# Altium integrated library SparkFun-IC-Special-Function.IntLib: 47 symbols
Pins are listed as number, name and electrical type; pins without a type are passive.

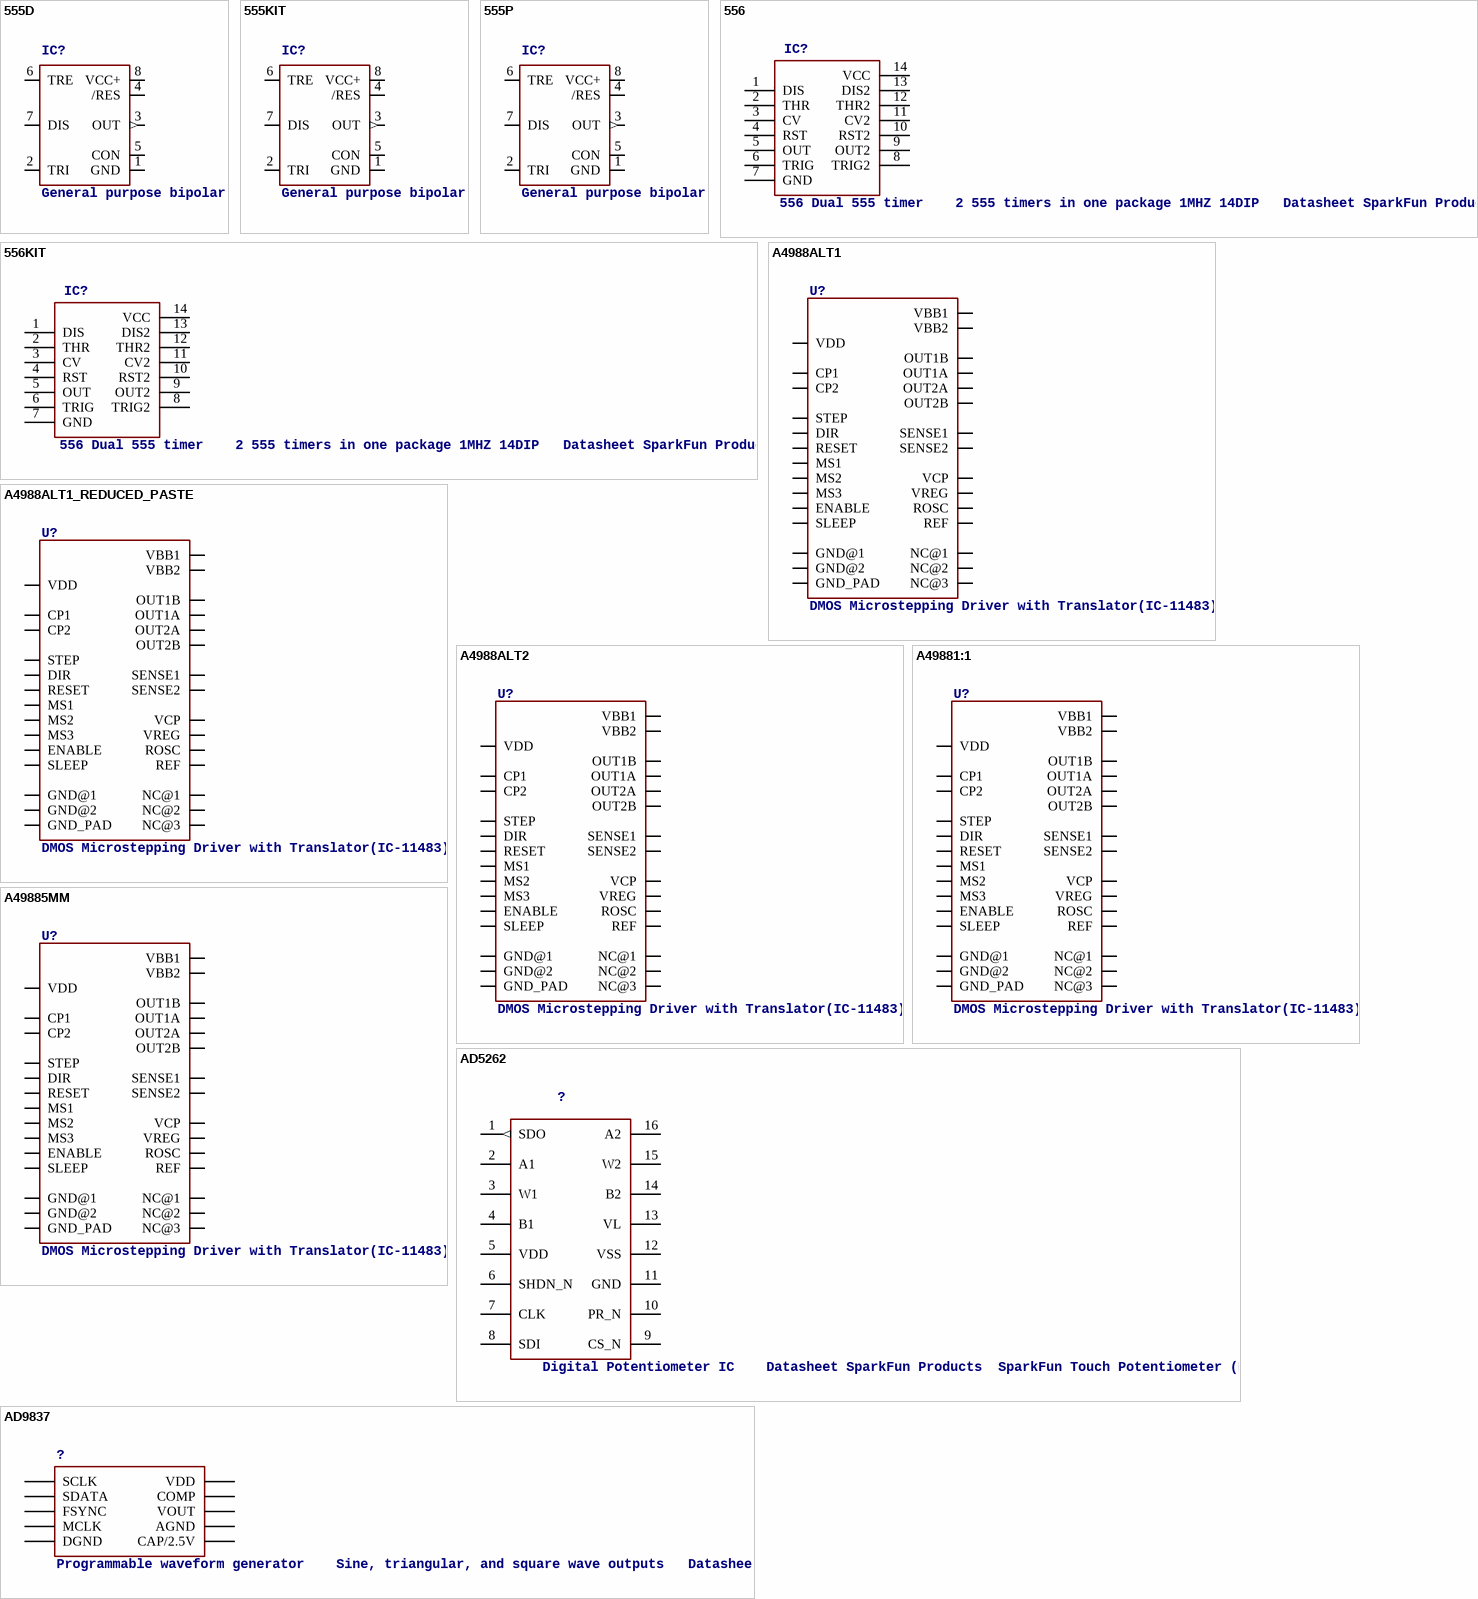
[diagram p0: symbols 555D to AD9837]

## 555D
designator IC?, comment General purpose bipolar Timer    Datasheet SparkFun Products  SparkFun SparkPunk Sequencer Kit (KIT-12707)  Storefront Component: 555 Timer (COM-09273)    Two parts valid for production:  VFP: IC-11930 (M7555 PTH) VFP: IC-09173 (555 PTH) - Preferred
PROD_ID: NA-XXXXX
footprint SO08
pins: 1 GND (power), 2 TRI, 3 OUT (out), 4 /RES, 5 CON, 6 TRE, 7 DIS, 8 VCC+ (power)

## 555KIT
designator IC?, comment General purpose bipolar Timer    Datasheet SparkFun Products  SparkFun SparkPunk Sequencer Kit (KIT-12707)  Storefront Component: 555 Timer (COM-09273)    Two parts valid for production:  VFP: IC-11930 (M7555 PTH) VFP: IC-09173 (555 PTH) - Preferred
PROD_ID: IC-09173; PROD_ID_ALT: IC-11930
footprint DIP08-KIT
pins: 1 GND (power), 2 TRI, 3 OUT (out), 4 /RES, 5 CON, 6 TRE, 7 DIS, 8 VCC+ (power)

## 555P
designator IC?, comment General purpose bipolar Timer    Datasheet SparkFun Products  SparkFun SparkPunk Sequencer Kit (KIT-12707)  Storefront Component: 555 Timer (COM-09273)    Two parts valid for production:  VFP: IC-11930 (M7555 PTH) VFP: IC-09173 (555 PTH) - Preferred
PROD_ID: IC-09173; PROD_ID_ALT: IC-09173
footprint DIP08
pins: 1 GND (power), 2 TRI, 3 OUT (out), 4 /RES, 5 CON, 6 TRE, 7 DIS, 8 VCC+ (power)

## 556
designator IC?, comment 556 Dual 555 timer    2 555 timers in one package 1MHZ 14DIP   Datasheet SparkFun Products  SparkFun SparkPunk Sound Kit (KIT-11177)
PROD_ID: IC-11898
footprint DIP14
pins: 1 DIS, 2 THR, 3 CV, 4 RST, 5 OUT, 6 TRIG, 7 GND, 8 TRIG2, 9 OUT2, 10 RST2, 11 CV2, 12 THR2, 13 DIS2, 14 VCC

## 556KIT
designator IC?, comment 556 Dual 555 timer    2 555 timers in one package 1MHZ 14DIP   Datasheet SparkFun Products  SparkFun SparkPunk Sound Kit (KIT-11177)
PROD_ID: IC-11898
footprint DIP14-KIT
pins: 1 DIS, 2 THR, 3 CV, 4 RST, 5 OUT, 6 TRIG, 7 GND, 8 TRIG2, 9 OUT2, 10 RST2, 11 CV2, 12 THR2, 13 DIS2, 14 VCC

## A4988ALT1
designator U?, comment DMOS Microstepping Driver with Translator(IC-11483)
PROD_ID: IC-11483
footprint QFN-28-5MM_ALT1
pins: P$1 OUT2B, P$2 ENABLE, P$3 GND@1 (power), P$4 CP1, P$5 CP2, P$6 VCP, P$7 NC@1, P$8 VREG, P$9 MS1, P$10 MS2, P$11 MS3, P$12 RESET, P$13 ROSC, P$14 SLEEP, P$15 VDD (power), P$16 STEP, P$17 REF, P$18 GND@2 (power), P$19 DIR, P$20 NC@2, P$21 OUT1B, P$22 VBB1, P$23 SENSE1, P$24 OUT1A, P$25 NC@3, P$26 OUT2A, P$27 SENSE2, P$28 VBB2, P$29 GND_PAD (power)

## A4988ALT1_REDUCED_PASTE
designator U?, comment DMOS Microstepping Driver with Translator(IC-11483)
PROD_ID: IC-11483
footprint QFN-28-5MM_ALT1_REDUCED_PASTE
pins: P$1 OUT2B, P$2 ENABLE, P$3 GND@1 (power), P$4 CP1, P$5 CP2, P$6 VCP, P$7 NC@1, P$8 VREG, P$9 MS1, P$10 MS2, P$11 MS3, P$12 RESET, P$13 ROSC, P$14 SLEEP, P$15 VDD (power), P$16 STEP, P$17 REF, P$18 GND@2 (power), P$19 DIR, P$20 NC@2, P$21 OUT1B, P$22 VBB1, P$23 SENSE1, P$24 OUT1A, P$25 NC@3, P$26 OUT2A, P$27 SENSE2, P$28 VBB2, P$29 GND_PAD (power)

## A4988ALT2
designator U?, comment DMOS Microstepping Driver with Translator(IC-11483)
footprint QFN-28-5MM_ALT2
pins: P$1 OUT2B, P$2 ENABLE, P$3 GND@1 (power), P$4 CP1, P$5 CP2, P$6 VCP, P$7 NC@1, P$8 VREG, P$9 MS1, P$10 MS2, P$11 MS3, P$12 RESET, P$13 ROSC, P$14 SLEEP, P$15 VDD (power), P$16 STEP, P$17 REF, P$18 GND@2 (power), P$19 DIR, P$20 NC@2, P$21 OUT1B, P$22 VBB1, P$23 SENSE1, P$24 OUT1A, P$25 NC@3, P$26 OUT2A, P$27 SENSE2, P$28 VBB2, P$29 GND_PAD (power)

## A49881:1
designator U?, comment DMOS Microstepping Driver with Translator(IC-11483)
footprint QFN-28-5MM-1:1
pins: P$1 OUT2B, P$2 ENABLE, P$3 GND@1 (power), P$4 CP1, P$5 CP2, P$6 VCP, P$7 NC@1, P$8 VREG, P$9 MS1, P$10 MS2, P$11 MS3, P$12 RESET, P$13 ROSC, P$14 SLEEP, P$15 VDD (power), P$16 STEP, P$17 REF, P$18 GND@2 (power), P$19 DIR, P$20 NC@2, P$21 OUT1B, P$22 VBB1, P$23 SENSE1, P$24 OUT1A, P$25 NC@3, P$26 OUT2A, P$27 SENSE2, P$28 VBB2, P$29 GND_PAD (power)

## A49885MM
designator U?, comment DMOS Microstepping Driver with Translator(IC-11483)
footprint QFN-28-5MM
pins: P$1 OUT2B, P$2 ENABLE, P$3 GND@1 (power), P$4 CP1, P$5 CP2, P$6 VCP, P$7 NC@1, P$8 VREG, P$9 MS1, P$10 MS2, P$11 MS3, P$12 RESET, P$13 ROSC, P$14 SLEEP, P$15 VDD (power), P$16 STEP, P$17 REF, P$18 GND@2 (power), P$19 DIR, P$20 NC@2, P$21 OUT1B, P$22 VBB1, P$23 SENSE1, P$24 OUT1A, P$25 NC@3, P$26 OUT2A, P$27 SENSE2, P$28 VBB2, P$29 GND_PAD (power)

## AD5262
designator ?, comment Digital Potentiometer IC    Datasheet SparkFun Products  SparkFun Touch Potentiometer (PRT-13144)
PROD_ID: IC-12358
footprint SSOP16
pins: 1 SDO (out), 2 A1, 3 W1, 4 B1, 5 VDD (power), 6 SHDN_N, 7 CLK, 8 SDI, 9 CS_N, 10 PR_N, 11 GND (power), 12 VSS (power), 13 VL (power), 14 B2, 15 W2, 16 A2

## AD9837
designator ?, comment Programmable waveform generator    Sine, triangular, and square wave outputs   Datasheet SparkFun Products  SparkFun MiniGen - Pro Mini Signal Generator Shield (BOB-11420)
PROD_ID: IC-11223
footprint AD9837
pins: P$0 P$4 DGND, P$1 COMP, P$2 VDD, P$3 CAP/2.5V, P$5 MCLK, P$6 SDATA, P$7 SCLK, P$8 FSYNC, P$9 AGND, P$10 VOUT

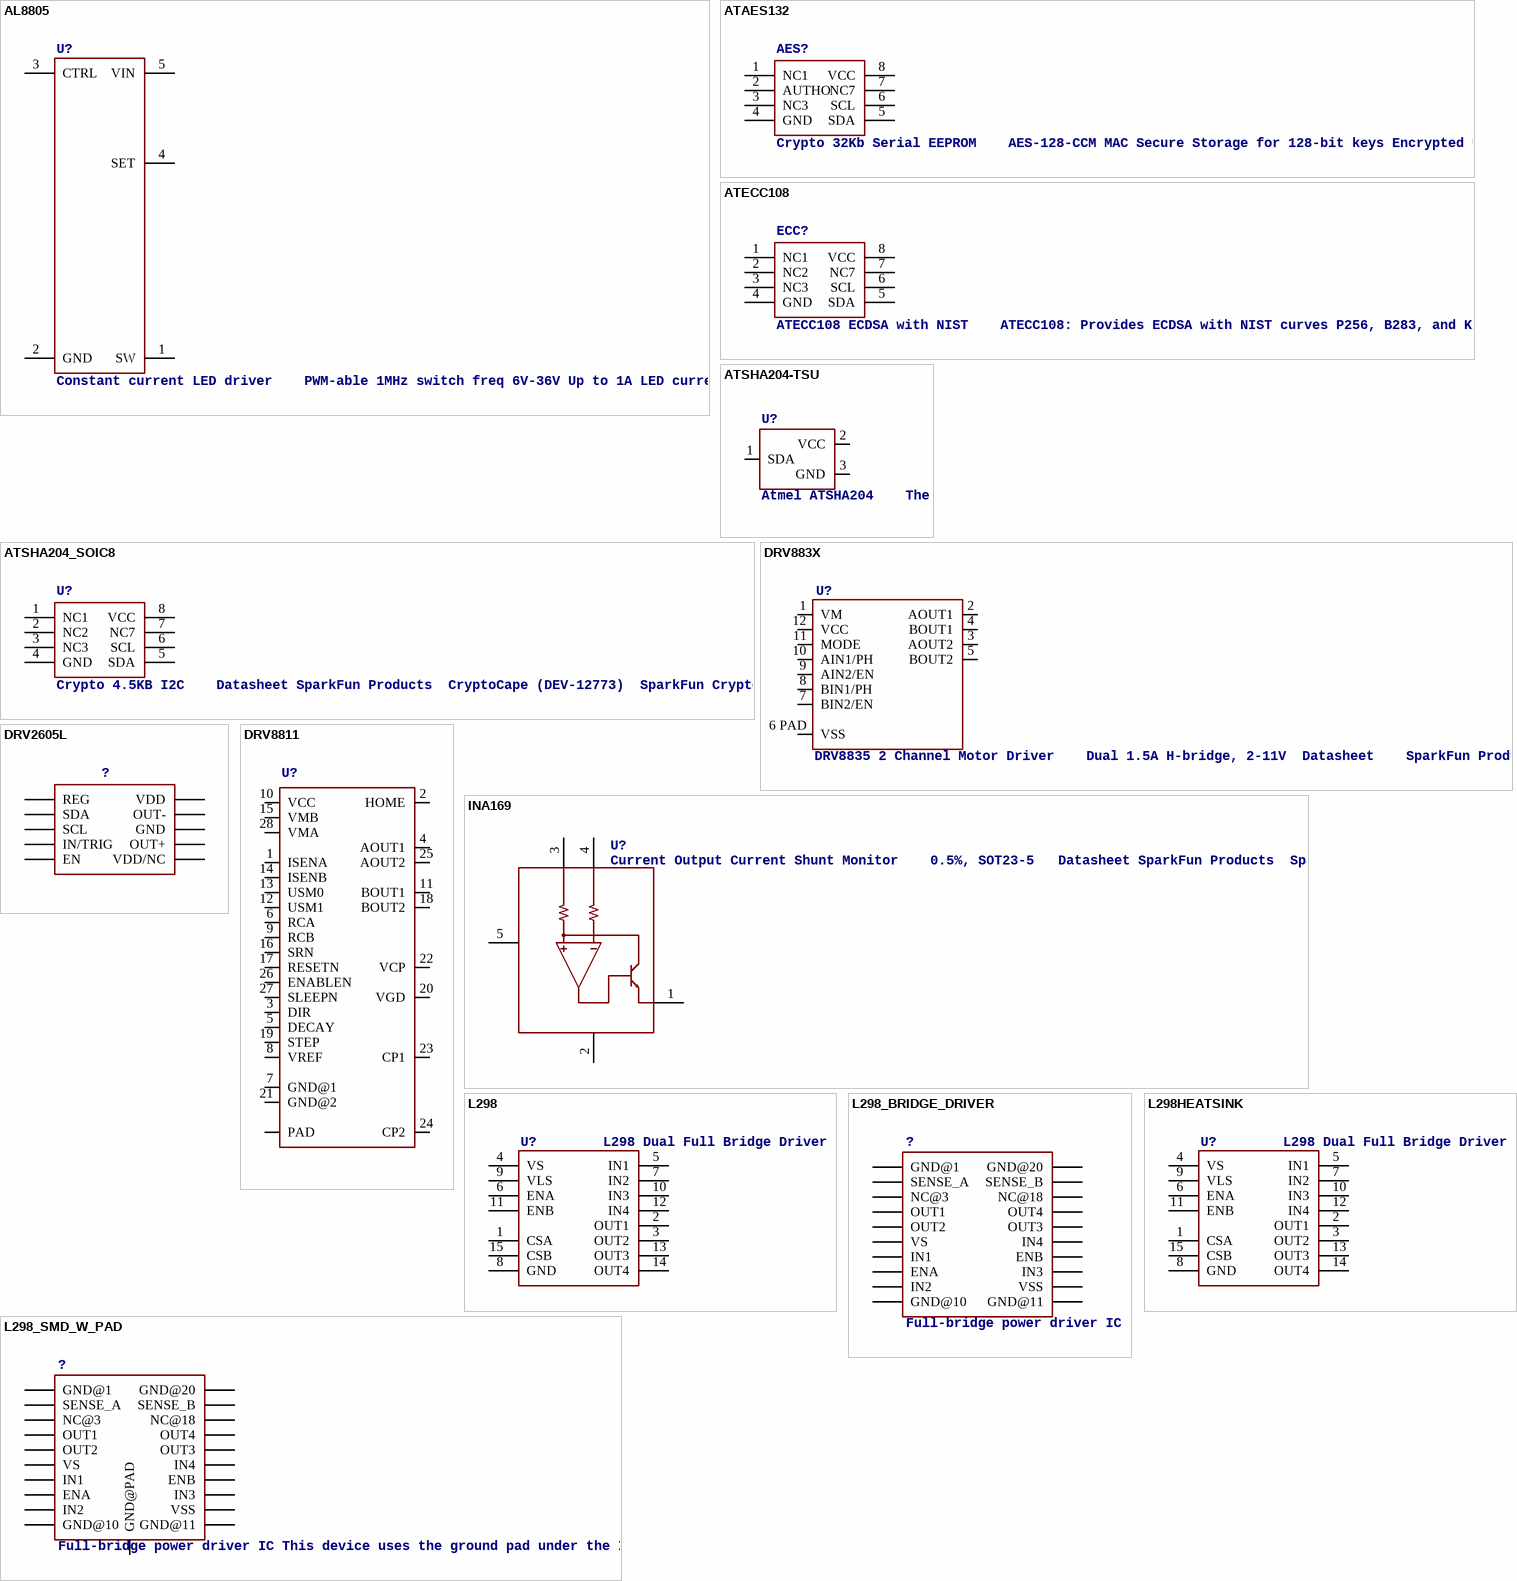
[diagram p1: symbols AL8805 to L298HEATSINK]

## AL8805
designator U?, comment Constant current LED driver    PWM-able 1MHz switch freq 6V-36V Up to 1A LED current
PROD_ID: IC-11626
footprint SOT23-5
pins: 1 SW, 2 GND, 3 CTRL, 4 SET, 5 VIN

## ATAES132
designator AES?, comment Crypto 32Kb Serial EEPROM    AES-128-CCM MAC Secure Storage for 128-bit keys Encrypted User Memory Readn and Write HWRNG 2.5V to 5.5V    Datasheet SparkFun Products  CryptoCape (DEV-12773)  SparkFun CryptoShield (DEV-13183)
PROD_ID: IC-11983
footprint SO08
pins: 1 NC1, 2 AUTHO, 3 NC3, 4 GND (power), 5 SDA, 6 SCL, 7 NC7, 8 VCC (power)

## ATECC108
designator ECC?, comment ATECC108 ECDSA with NIST    ATECC108: Provides ECDSA with NIST curves P256, B283, and K283.  Also, a RNG, 8.5Kb EEPROM.  2.0V - 5.5V.   Datasheet SparkFun Products  CryptoCape (DEV-12773)  SparkFun CryptoShield (DEV-13183)
PROD_ID: IC-11982
footprint SO08
pins: 1 NC1, 2 NC2, 3 NC3, 4 GND (power), 5 SDA, 6 SCL, 7 NC7, 8 VCC (power)

## ATSHA204-TSU
designator U?, comment Atmel ATSHA204    The Atmel ATSHA204 is an optimized authentication chip that includes a 4.5Kb EEPROM. This array can be used for storage of keys, miscellaneous read/write, read-only, password or secret data, and consumption tracking. Access to the various sections of memory can be restricted in a variety of ways and then the configuration locked to prevent changes.   Datasheet SparkFun Products  SparkFun Electric Imp Shield    SparkFun Electric Imp Breakout
PROD_ID: IC-11208
footprint SOT23-3
pins: 1 SDA, 2 VCC, 3 GND

## ATSHA204_SOIC8
designator U?, comment Crypto 4.5KB I2C    Datasheet SparkFun Products  CryptoCape (DEV-12773)  SparkFun CryptoShield (DEV-13183)
PROD_ID: IC-11981
footprint SO08
pins: 1 NC1, 2 NC2, 3 NC3, 4 GND (power), 5 SDA, 6 SCL, 7 NC7, 8 VCC (power)

## DRV883X
designator U?, comment DRV8835 2 Channel Motor Driver    Dual 1.5A H-bridge, 2-11V  Datasheet    SparkFun Products: SparkFun Serial Controlled Motor Driver
PROD_ID: IC-13342
footprint WSON-12
pins: 1 VM, 2 AOUT1, 3 AOUT2, 4 BOUT1, 5 BOUT2, 6 PAD VSS, 7 BIN2/EN, 8 BIN1/PH, 9 AIN2/EN, 10 AIN1/PH, 11 MODE, 12 VCC

## DRV2605L
designator ?
PROD_ID: IC-13504
footprint VSSOP-10
pins: P$1 REG, P$2 SCL, P$3 SDA, P$4 IN/TRIG, P$5 EN, P$6 VDD/NC, P$7 OUT+, P$8 GND, P$9 OUT-, P$10 VDD

## DRV8811
designator U?
PROD_ID: IC-12375
footprint HTSSOP28
pins: 1 ISENA, 2 HOME, 3 DIR, 4 AOUT1, 5 DECAY, 6 RCA, 7 GND@1, 8 VREF, 9 RCB, 10 VCC, 11 BOUT1, 12 USM1, 13 USM0, 14 ISENB, 15 VMB, 16 SRN, 17 RESETN, 18 BOUT2, 19 STEP, 20 VGD, 21 GND@2, 22 VCP, 23 CP1, 24 CP2, 25 AOUT2, 26 ENABLEN, 27 SLEEPN, 28 VMA, GND@10 GND@11 GND@12 GND@13 GND@14 GND@15 GND@16 GND@17 GND@18 GND@19 GND@20 GND@21 GND@22 GND@23 GND@24 GND@25 GND@26 GND@27 GND@28 GND@29 GND@30 GND@PAD PAD

## INA169
designator U?, comment Current Output Current Shunt Monitor    0.5%, SOT23-5   Datasheet SparkFun Products  SparkFun Current Sensor Breakout - INA169 (SEN-12040)
PROD_ID: IC-11776
footprint SOT23-5
pins: 1 OUT, 2 GND, 3 VIN+, 4 VIN-, 5 V+

## L298
designator U?, comment L298 Dual Full Bridge Driver
footprint MULTIWATT15
pins: 1 CSA, 2 OUT1, 3 OUT2, 4 VS, 5 IN1, 6 ENA, 7 IN2, 8 GND, 9 VLS, 10 IN3, 11 ENB, 12 IN4, 13 OUT3, 14 OUT4, 15 CSB

## L298_BRIDGE_DRIVER
designator ?, comment Full-bridge power driver IC
PROD_ID: IC-09133
footprint POWERSO20
pins: 1 GND@1, 2 SENSE_A, 3 NC@3, 4 OUT1, 5 OUT2, 6 VS, 7 IN1, 8 ENA, 9 IN2, 10 GND@10, 11 GND@11, 12 VSS, 13 IN3, 14 ENB, 15 IN4, 16 OUT3, 17 OUT4, 18 NC@18, 19 SENSE_B, 20 GND@20

## L298_SMD_W_PAD
designator ?, comment Full-bridge power driver IC This device uses the ground pad under the IC
PROD_ID: IC-09133
footprint POWERSO20_L298_PAD
pins: 1 GND@1, 2 SENSE_A, 3 NC@3, 4 OUT1, 5 OUT2, 6 VS, 7 IN1, 8 ENA, 9 IN2, 10 GND@10, 11 GND@11, 12 VSS, 13 IN3, 14 ENB, 15 IN4, 16 OUT3, 17 OUT4, 18 NC@18, 19 SENSE_B, 20 GND@20, PAD GND@PAD

## L298HEATSINK
designator U?, comment L298 Dual Full Bridge Driver
footprint MULTIWATT15_6400BGHEATSINK
pins: 1 CSA, 2 OUT1, 3 OUT2, 4 VS, 5 IN1, 6 ENA, 7 IN2, 8 GND, 9 VLS, 10 IN3, 11 ENB, 12 IN4, 13 OUT3, 14 OUT4, 15 CSB

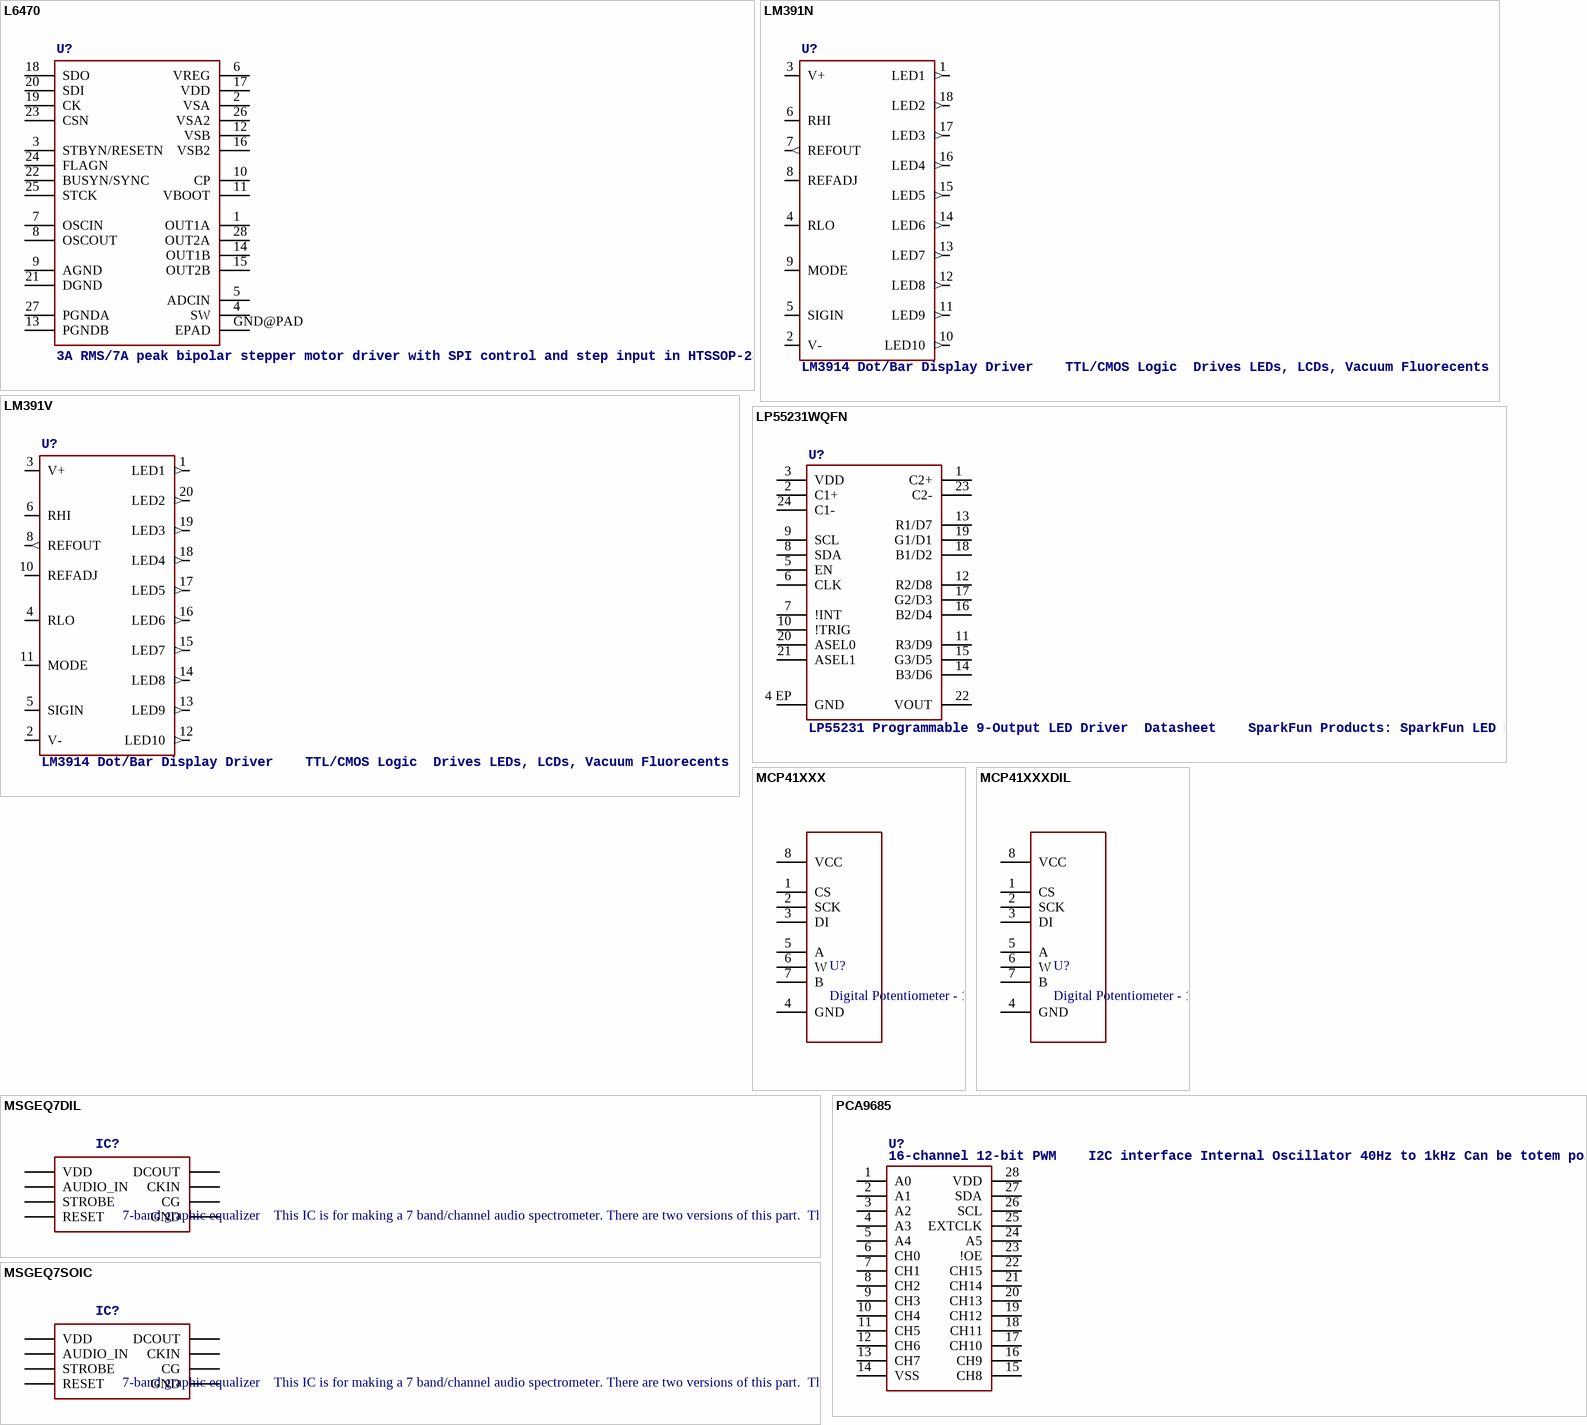
[diagram p2: symbols L6470 to PCA9685]

## L6470
designator U?, comment 3A RMS/7A peak bipolar stepper motor driver with SPI control and step input in HTSSOP-28 package. IC-10648
PROD_ID: IC-10648
footprint HTSSOP28
pins: 1 OUT1A, 2 VSA, 3 STBYN/RESETN, 4 SW, 5 ADCIN, 6 VREG, 7 OSCIN, 8 OSCOUT, 9 AGND, 10 CP, 11 VBOOT, 12 VSB, 13 PGNDB, 14 OUT1B, 15 OUT2B, 16 VSB2, 17 VDD, 18 SDO, 19 CK, 20 SDI, 21 DGND, 22 BUSYN/SYNC, 23 CSN, 24 FLAGN, 25 STCK, 26 VSA2, 27 PGNDA, 28 OUT2A, GND@PAD EPAD

## LM391N
designator U?, comment LM3914 Dot/Bar Display Driver    TTL/CMOS Logic  Drives LEDs, LCDs, Vacuum Fluorecents  Source:  Data sheet LM3915  Data sheet LM3914    SparkFun Products: MyoWare LED Shield  Dot/Bar Display Driver - LM3914
SF_ID: COM-12694
footprint DIL18
pins: 1 LED1 (out), 2 V- (power), 3 V+ (power), 4 RLO, 5 SIGIN, 6 RHI, 7 REFOUT (out), 8 REFADJ, 9 MODE, 10 LED10 (out), 11 LED9 (out), 12 LED8 (out), 13 LED7 (out), 14 LED6 (out), 15 LED5 (out), 16 LED4 (out), 17 LED3 (out), 18 LED2 (out)

## LM391V
designator U?, comment LM3914 Dot/Bar Display Driver    TTL/CMOS Logic  Drives LEDs, LCDs, Vacuum Fluorecents  Source:  Data sheet LM3915  Data sheet LM3914    SparkFun Products: MyoWare LED Shield  Dot/Bar Display Driver - LM3914
PROD_ID: IC-13110
footprint PLCC20S
pins: 1 LED1 (out), 2 V- (power), 3 V+ (power), 4 RLO, 5 SIGIN, 6 RHI, 8 REFOUT (out), 10 REFADJ, 11 MODE, 12 LED10 (out), 13 LED9 (out), 14 LED8 (out), 15 LED7 (out), 16 LED6 (out), 17 LED5 (out), 18 LED4 (out), 19 LED3 (out), 20 LED2 (out)

## LP55231WQFN
designator U?, comment LP55231 Programmable 9-Output LED Driver  Datasheet    SparkFun Products: SparkFun LED Driver Breakout - LP55231
PROD_ID: IC-13302
footprint WQFN-24
pins: 1 C2+, 2 C1+, 3 VDD, 4 EP GND, 5 EN, 6 CLK, 7 !INT, 8 SDA, 9 SCL, 10 !TRIG, 11 R3/D9, 12 R2/D8, 13 R1/D7, 14 B3/D6, 15 G3/D5, 16 B2/D4, 17 G2/D3, 18 B1/D2, 19 G1/D1, 20 ASEL0, 21 ASEL1, 22 VOUT, 23 C2-, 24 C1-

## MCP41XXX
designator U?, comment Digital Potentiometer - 10K    SPI controlled single digital potentiometer by Microchip   Datasheet SparkFun Products  Storefront component: Digital Potentiometer - 10K (COM-10613)
PROD_ID: NA-XXXXX
footprint SO08
pins: 1 CS, 2 SCK, 3 DI, 4 GND, 5 A, 6 W, 7 B, 8 VCC

## MCP41XXXDIL
designator U?, comment Digital Potentiometer - 10K    SPI controlled single digital potentiometer by Microchip   Datasheet SparkFun Products  Storefront component: Digital Potentiometer - 10K (COM-10613)
PROD_ID: RES-13155
footprint DIP08
pins: 1 CS, 2 SCK, 3 DI, 4 GND, 5 A, 6 W, 7 B, 8 VCC

## MSGEQ7DIL
designator IC?, comment 7-band graphic equalizer    This IC is for making a 7 band/channel audio spectrometer. There are two versions of this part.  The DIP available on the storefront, and the SO used in product.    Datasheet SparkFun Products  Storefront component: Graphic Equalizer Display Filter - MSGEQ7 (COM-10468)  SparkFun Spectrum Shield (DEV-13116)
PROD_ID: IC-12196
footprint DIP08
pins: 1 VDD, 2 GND, 3 DCOUT, 4 STROBE, 5 AUDIO_IN, 6 CG, 7 RESET, 8 CKIN

## MSGEQ7SOIC
designator IC?, comment 7-band graphic equalizer    This IC is for making a 7 band/channel audio spectrometer. There are two versions of this part.  The DIP available on the storefront, and the SO used in product.    Datasheet SparkFun Products  Storefront component: Graphic Equalizer Display Filter - MSGEQ7 (COM-10468)  SparkFun Spectrum Shield (DEV-13116)
PROD_ID: IC-10141
footprint SO08
pins: 1 VDD, 2 GND, 3 DCOUT, 4 STROBE, 5 AUDIO_IN, 6 CG, 7 RESET, 8 CKIN

## PCA9685
designator U?, comment 16-channel 12-bit PWM    I2C interface Internal Oscillator 40Hz to 1kHz Can be totem pole or open collector 2.3V to 5.5V  SparkFun Products  SparkFun Block for Intel® Edison - PWM (DEV-13042)    PROTO: IC-12240 PROD_ID: IC-12271
PROD_ID: IC-12271
footprint TSSOP-28_4MM
pins: 1 A0, 2 A1, 3 A2, 4 A3, 5 A4, 6 CH0, 7 CH1, 8 CH2, 9 CH3, 10 CH4, 11 CH5, 12 CH6, 13 CH7, 14 VSS, 15 CH8, 16 CH9, 17 CH10, 18 CH11, 19 CH12, 20 CH13, 21 CH14, 22 CH15, 23 !OE, 24 A5, 25 EXTCLK, 26 SCL, 27 SDA, 28 VDD

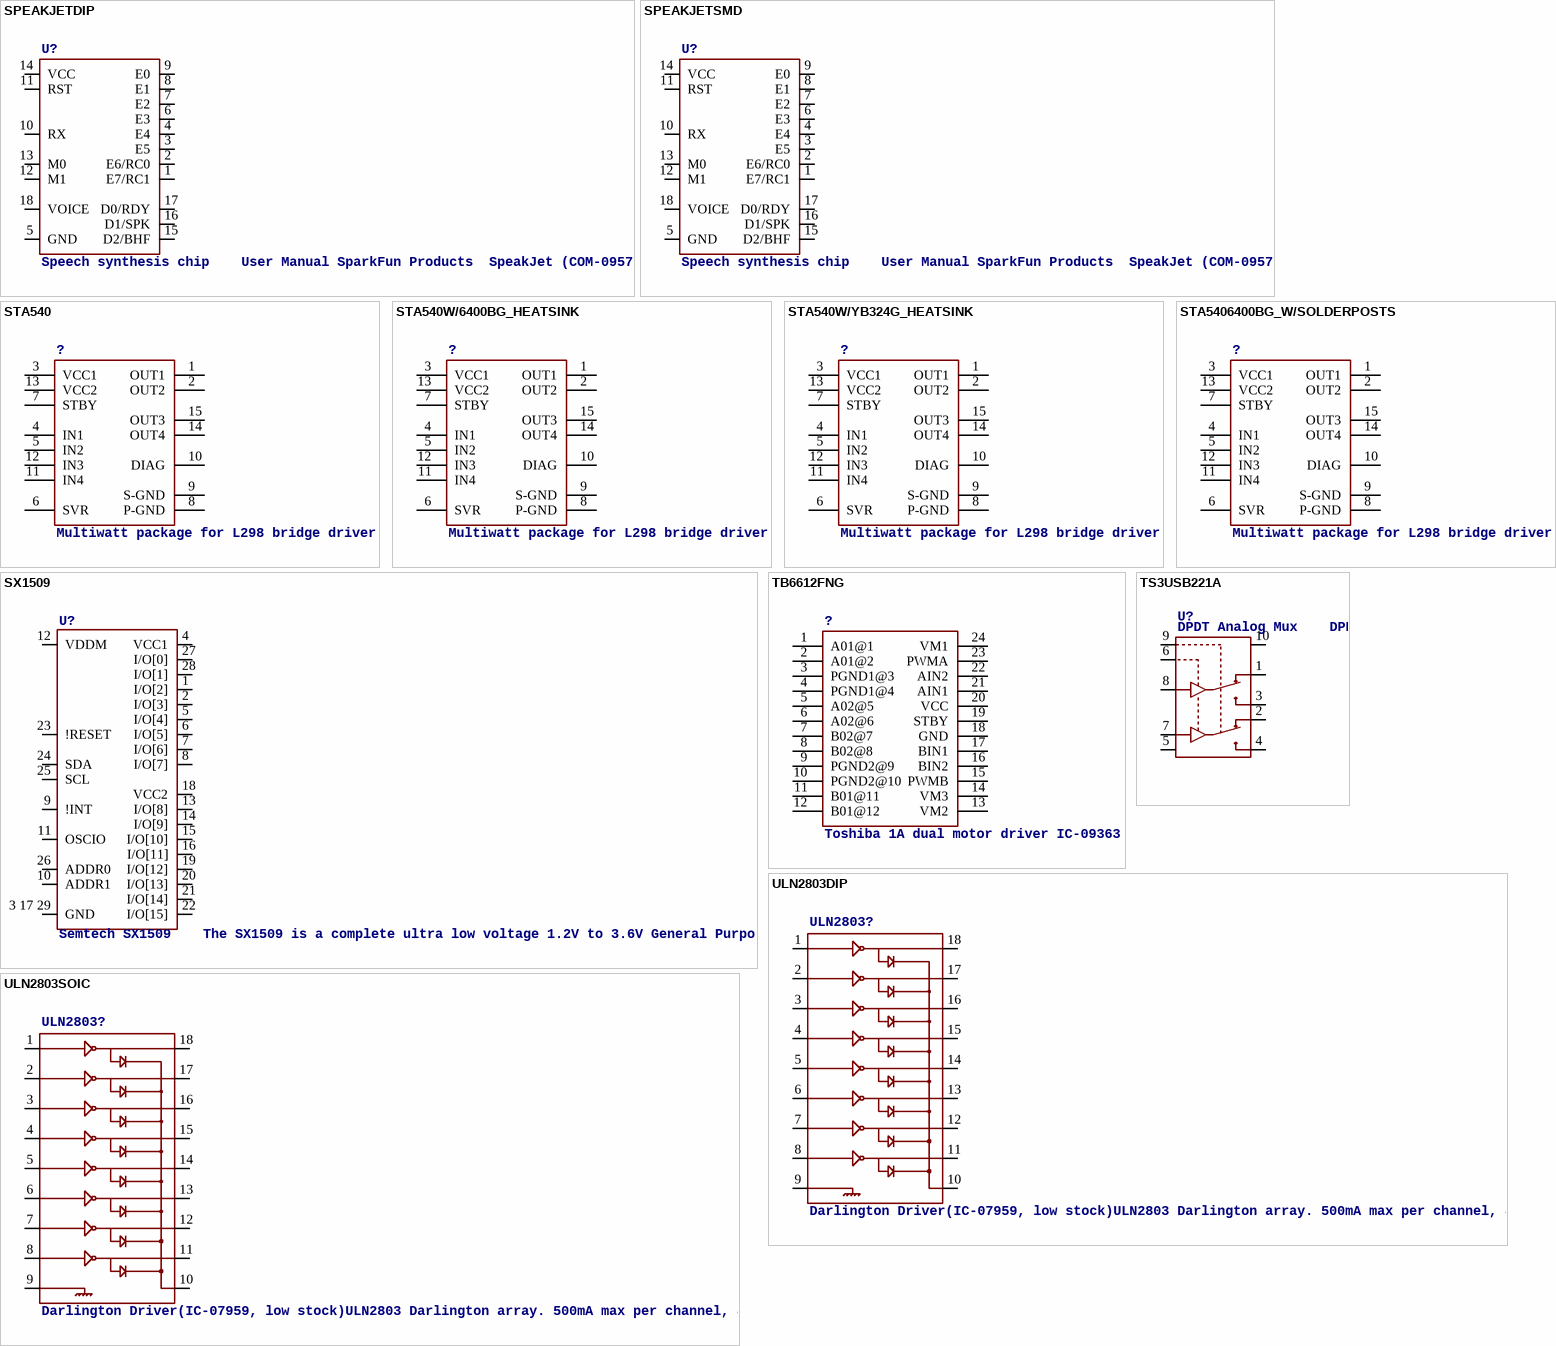
[diagram p3: symbols SPEAKJETDIP to ULN2803SOIC]

## SPEAKJETDIP
designator U?, comment Speech synthesis chip    User Manual SparkFun Products  SpeakJet (COM-09578)
PROD_ID: IC-09512
footprint DIP18
pins: 1 E7/RC1, 2 E6/RC0, 3 E5, 4 E4, 5 GND, 6 E3, 7 E2, 8 E1, 9 E0, 10 RX, 11 RST, 12 M1, 13 M0, 14 VCC, 15 D2/BHF, 16 D1/SPK, 17 D0/RDY, 18 VOICE

## SPEAKJETSMD
designator U?, comment Speech synthesis chip    User Manual SparkFun Products  SpeakJet (COM-09578)
PROD_ID: IC-XXXXX
footprint SOIC-18
pins: 1 E7/RC1, 2 E6/RC0, 3 E5, 4 E4, 5 GND, 6 E3, 7 E2, 8 E1, 9 E0, 10 RX, 11 RST, 12 M1, 13 M0, 14 VCC, 15 D2/BHF, 16 D1/SPK, 17 D0/RDY, 18 VOICE

## STA540
designator ?, comment Multiwatt package for L298 bridge driver
footprint MULTIWATT15
pins: 1 OUT1, 2 OUT2, 3 VCC1, 4 IN1, 5 IN2, 6 SVR, 7 STBY, 8 P-GND, 9 S-GND, 10 DIAG, 11 IN4, 12 IN3, 13 VCC2, 14 OUT4, 15 OUT3

## STA540W/6400BG_HEATSINK
designator ?, comment Multiwatt package for L298 bridge driver
footprint MULTIWATT15_6400BGHEATSINK
pins: 1 OUT1, 2 OUT2, 3 VCC1, 4 IN1, 5 IN2, 6 SVR, 7 STBY, 8 P-GND, 9 S-GND, 10 DIAG, 11 IN4, 12 IN3, 13 VCC2, 14 OUT4, 15 OUT3

## STA540W/YB324G_HEATSINK
designator ?, comment Multiwatt package for L298 bridge driver
footprint MULTIWATT15_YB324GHEATSINK
pins: 1 OUT1, 2 OUT2, 3 VCC1, 4 IN1, 5 IN2, 6 SVR, 7 STBY, 8 P-GND, 9 S-GND, 10 DIAG, 11 IN4, 12 IN3, 13 VCC2, 14 OUT4, 15 OUT3

## STA5406400BG_W/SOLDERPOSTS
designator ?, comment Multiwatt package for L298 bridge driver
footprint MULTIWATT15_6400BGHEATSINK_2
pins: 1 OUT1, 2 OUT2, 3 VCC1, 4 IN1, 5 IN2, 6 SVR, 7 STBY, 8 P-GND, 9 S-GND, 10 DIAG, 11 IN4, 12 IN3, 13 VCC2, 14 OUT4, 15 OUT3

## SX1509
designator U?, comment Semtech SX1509    The SX1509 is a complete ultra low voltage 1.2V to 3.6V General Purpose parallel Input/Output (GPIO) expanders ideal for low power handheld battery powered equipment. This version comes in a 16-channel configuration and allows easy serial expansion of I/O through a standard 400kHz I2C interface. GPIO devices can provide additional control and monitoring when the microcontroller or chipset has insufficient I/O ports, or in systems where serial communication and control from a remote location is advantageous.   Datasheet SparkFun Products  SparkFun 16 Output I/O Expander Breakout - SX1509 (BOB-13601)  SparkFun Line Follower Array (SEN-13582)
PROD_ID: IC-11311
footprint QFN-28
pins: 1 I/O[2], 2 I/O[3], 3 17 29 GND, 4 VCC1, 5 I/O[4], 6 I/O[5], 7 I/O[6], 8 I/O[7], 9 !INT, 10 ADDR1, 11 OSCIO, 12 VDDM, 13 I/O[8], 14 I/O[9], 15 I/O[10], 16 I/O[11], 18 VCC2, 19 I/O[12], 20 I/O[13], 21 I/O[14], 22 I/O[15], 23 !RESET, 24 SDA, 25 SCL, 26 ADDR0, 27 I/O[0], 28 I/O[1]

## TB6612FNG
designator ?, comment Toshiba 1A dual motor driver IC-09363
PROD_ID: IC-09363
footprint SSOP24
pins: 1 A01@1, 2 A01@2, 3 PGND1@3, 4 PGND1@4, 5 A02@5, 6 A02@6, 7 B02@7, 8 B02@8, 9 PGND2@9, 10 PGND2@10, 11 B01@11, 12 B01@12, 13 VM2, 14 VM3, 15 PWMB, 16 BIN2, 17 BIN1, 18 GND, 19 STBY, 20 VCC, 21 AIN1, 22 AIN2, 23 PWMA, 24 VM1

## TS3USB221A
designator U?, comment DPDT Analog Mux    DPDT Analog Mux Vcc 2.5 to 3.3V Passes up to 5.5V at 3.3V supply 900MHz BW, 6Ω switch resistance  SparkFun Products  SparkFun FTDI SmartBasic (DEV-12935)
PROD_ID: IC-12115
footprint QFN-10-RSE
pins: 1 1D+, 2 1D-, 3 2D+, 4 2D-, 5 VSS, 6 !OE, 7 D-, 8 D+, 9 S, 10 VCC

## ULN2803DIP
designator ULN2803?, comment Darlington Driver(IC-07959, low stock)ULN2803 Darlington array. 500mA max per channel, 8-channel package. Spark Fun Electronics SKU : COM-00312
footprint DIL18
pins: 1, 2, 3, 4, 5, 6, 7, 8, 9, 10, 11, 12, 13, 14, 15, 16, 17, 18

## ULN2803SOIC
designator ULN2803?, comment Darlington Driver(IC-07959, low stock)ULN2803 Darlington array. 500mA max per channel, 8-channel package. Spark Fun Electronics SKU : COM-00312
footprint SO018
pins: 1, 2, 3, 4, 5, 6, 7, 8, 9, 10, 11, 12, 13, 14, 15, 16, 17, 18

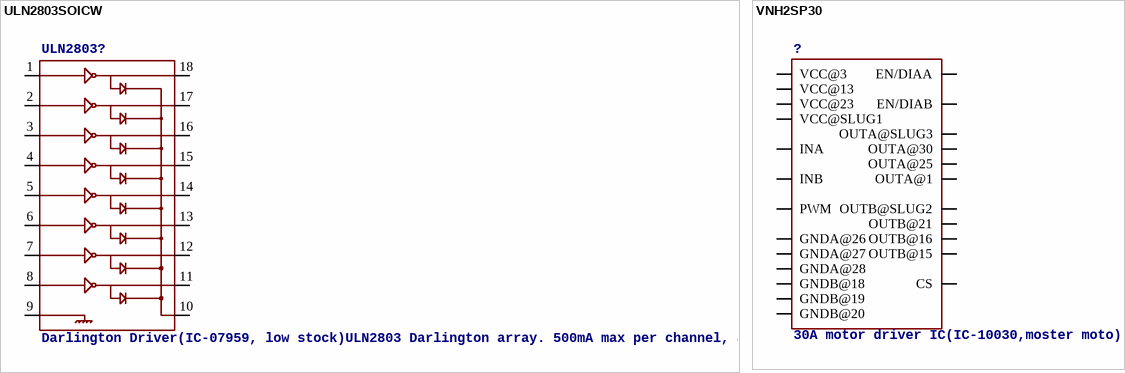
[diagram p4: symbols ULN2803SOICW to VNH2SP30]

## ULN2803SOICW
designator ULN2803?, comment Darlington Driver(IC-07959, low stock)ULN2803 Darlington array. 500mA max per channel, 8-channel package. Spark Fun Electronics SKU : COM-00312
footprint SO18L
pins: 1, 2, 3, 4, 5, 6, 7, 8, 9, 10, 11, 12, 13, 14, 15, 16, 17, 18

## VNH2SP30
designator ?, comment 30A motor driver IC(IC-10030,moster moto)
footprint VNH2SP30
pins: 1 OUTA@1, 3 VCC@3, 5 INA, 6 EN/DIAA, 8 PWM, 9 CS, 10 EN/DIAB, 11 INB, 13 VCC@13, 15 OUTB@15, 16 OUTB@16, 18 GNDB@18, 19 GNDB@19, 20 GNDB@20, 21 OUTB@21, 23 VCC@23, 25 OUTA@25, 26 GNDA@26, 27 GNDA@27, 28 GNDA@28, 30 OUTA@30, SLUG1 VCC@SLUG1, SLUG2 OUTB@SLUG2, SLUG3 OUTA@SLUG3